# EAGLE library part ADG732 (library Bauteile)
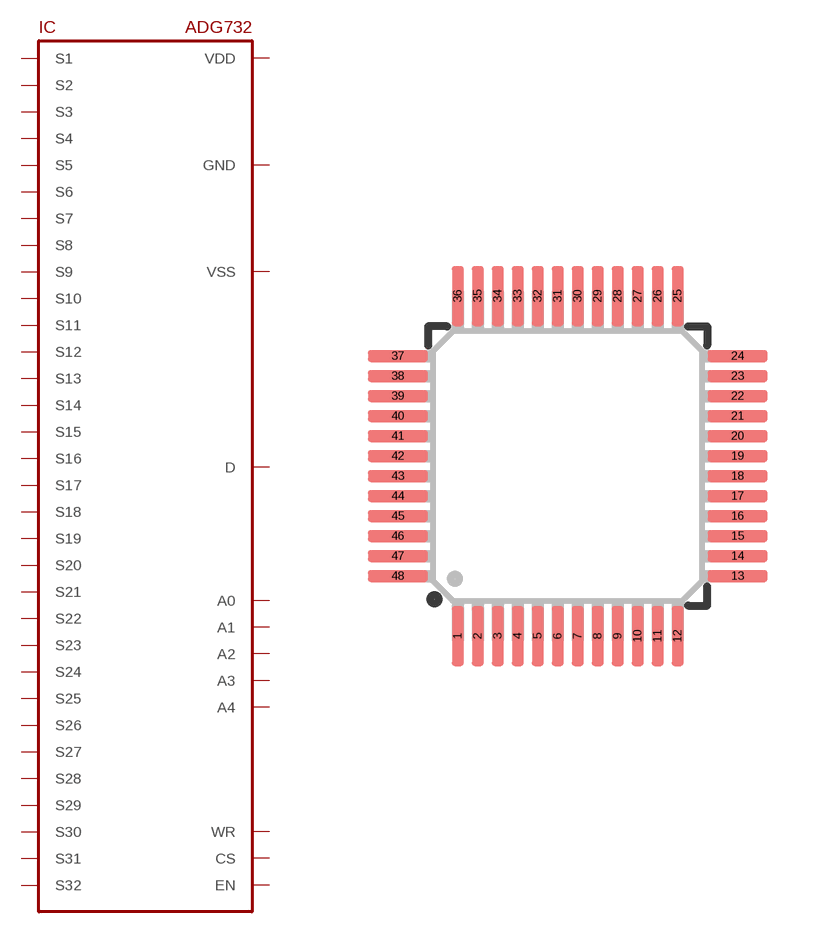
[diagram p144: symbol with the pads of TQFP48-0.5; footprint TQFP48-0.5]

Designator prefix IC

## ADG732  [TQFP48-0.5]
1  S12
2  S11
3  S10
4  S9
5  S8
6  S7
7  S6
8  S5
9  S4
10  S3
11  S2
12  S1
13  VDD
14  VDD
15  A0
16  A1
17  A2
18  A3
19  A4
20  CS
21  WR
22  EN
23  GND
24  VSS
25  S17
26  S18
27  S19
28  S20
29  S21
30  S22
31  S23
32  S24
33  S25
34  S26
35  S27
36  S28
37  S29
38  S30
39  S31
40  S32
43  D
45  S16
46  S15
47  S14
48  S13

## Footprint TQFP48-0.5 (pad centres in mm)
Thin Quad Flat Pack
smd 0.3 x 1.5: 1 -2.75,-4.25; 2 -2.25,-4.25; 3 -1.75,-4.25; 4 -1.25,-4.25; 5 -0.75,-4.25; 6 -0.25,-4.25; 7 0.25,-4.25; 8 0.75,-4.25; 9 1.25,-4.25; 10 1.75,-4.25; 11 2.25,-4.25; 12 2.75,-4.25; 25 2.75,4.25; 26 2.25,4.25; 27 1.75,4.25; 28 1.25,4.25; 29 0.75,4.25; 30 0.25,4.25; 31 -0.25,4.25; 32 -0.75,4.25; 33 -1.25,4.25; 34 -1.75,4.25; 35 -2.25,4.25; 36 -2.75,4.25
smd 1.5 x 0.3: 13 4.25,-2.75; 14 4.25,-2.25; 15 4.25,-1.75; 16 4.25,-1.25; 17 4.25,-0.75; 18 4.25,-0.25; 19 4.25,0.25; 20 4.25,0.75; 21 4.25,1.25; 22 4.25,1.75; 23 4.25,2.25; 24 4.25,2.75; 37 -4.25,2.75; 38 -4.25,2.25; 39 -4.25,1.75; 40 -4.25,1.25; 41 -4.25,0.75; 42 -4.25,0.25; 43 -4.25,-0.25; 44 -4.25,-0.75; 45 -4.25,-1.25; 46 -4.25,-1.75; 47 -4.25,-2.25; 48 -4.25,-2.75